# Altium integrated library Capacitos$.IntLib: 174 symbols (part 2 of 2)
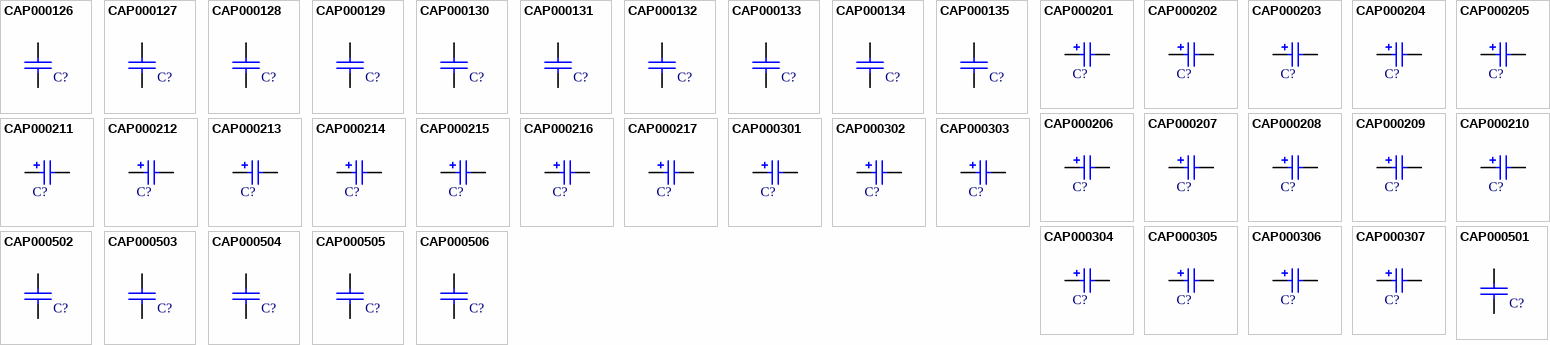
[diagram p5: symbols CAP000126 to CAP000506]

## CAP000207
designator C?, comment 100uF  (value not drawn)
CAP ELEC 100uF 63V TH; Manufactuer: Suntan; Manufacturer-PN: EKM107M1JG1BRR; UoA Stock#: CAP000207; Assembly Method: Through hole; Item Type: Item; Path: ece/ts/Lists/Stock Inventory; Revision: July-2002: Re-released for DXP Platform.; Value: 100uF; Size/Package: 10X13; Voltage/Current: 63V; Datasheet Link: http://share.engineering.auckland.ac.nz/ece/ts/Student%20Documents/CAP-SuntanTS14.pdf; Supplier1: Electus; Supplier1-PN: RE6150; Component Type: NA; Category: Capacitor; Review-date: 41982; Status: Active
footprint ECE-CAPPR5-10X16TH
pins: 1, 2

## CAP000208
designator C?, comment 220uF  (value not drawn)
CAP ELEC 220uF 63V TH; Manufactuer: Suntan; UoA Stock#: CAP000208; Assembly Method: Through hole; Item Type: Item; Path: ece/ts/Lists/Stock Inventory; Revision: July-2002: Re-released for DXP Platform.; Value: 220uF; Size/Package: 13X21; Voltage/Current: 63V; Datasheet Link: http://share.engineering.auckland.ac.nz/ece/ts/Student%20Documents/CAP-SuntanTS14.pdf; Component Type: NA; Category: Capacitor; Status: Active
footprint ECE-CAPPR5-13X21TH
pins: 1, 2

## CAP000209
designator C?, comment 470uF  (value not drawn)
CAP ELEC 470uF 63V TH; Manufactuer: Suntan; Manufacturer-PN: UPW1J471MHD; UoA Stock#: CAP000209; Assembly Method: Through hole; Item Type: Item; Path: ece/ts/Lists/Stock Inventory; Revision: July-2002: Re-released for DXP Platform.; Value: 470uF; Size/Package: 13X21; Voltage/Current: 63V; Datasheet Link: http://share.engineering.auckland.ac.nz/ece/ts/Student%20Documents/CAP-SuntanTS14.pdf; Supplier1: Electus; Supplier1-PN: RE6210; Component Type: NA; Category: Capacitor; Review-date: 41985; Status: Active
footprint ECE-CAPPR5-13X21TH
pins: 1, 2

## CAP000210
designator C?, comment 1000uF  (value not drawn)
CAP ELEC 1000uF 63V TH; Manufactuer: Nichicon; Manufacturer-PN: UVZ1J102MHD; UoA Stock#: CAP000210; Assembly Method: Through hole; Item Type: Item; Path: ece/ts/Lists/Stock Inventory; Revision: July-2002: Re-released for DXP Platform.; Value: 1000uF; Size/Package: 16X32; Voltage/Current: 63V; Datasheet Link: http://share.engineering.auckland.ac.nz/ece/ts/Student%20Documents/CAP-UVZ1E100MDD.pdf; Supplier1: Electus; Supplier1-PN: RE6236; Component Type: NA; Category: Capacitor; Review-date: 41987; Status: Active
footprint ECE-CAPPR7.5-16X32TH
pins: 1, 2

## CAP000211
designator C?, comment 10uF  (value not drawn)
CAP ELEC 10uF 25V TH; Manufactuer: Nichicon; Manufacturer-PN: UVZ1E100MDD; UoA Stock#: CAP000211; Assembly Method: Through hole; Item Type: Item; Path: ece/ts/Lists/Stock Inventory; Revision: July-2002: Re-released for DXP Platform.; Value: 10uF; Size/Package: 5X11; Voltage/Current: 25V; Datasheet Link: http://share.engineering.auckland.ac.nz/ece/ts/Student%20Documents/CAP-UVZ1E100MDD.pdf; Supplier1: Electus; Supplier1-PN: RE6070; Component Type: NA; Category: Capacitor; Review-date: 41977; Status: Active
footprint ECE-CAPPR2-5X11TH
pins: 1, 2

## CAP000212
designator C?, comment 22uF  (value not drawn)
CAP ELEC 22uF 25V TH; Manufactuer: Nichicon; Manufacturer-PN: UVZ1E220MDD; UoA Stock#: CAP000212; Assembly Method: Through hole; Item Type: Item; Path: ece/ts/Lists/Stock Inventory; Revision: July-2002: Re-released for DXP Platform.; Value: 22uF; Size/Package: 5X11; Voltage/Current: 25V; Datasheet Link: http://share.engineering.auckland.ac.nz/ece/ts/Student%20Documents/CAP-UVZ1E100MDD.pdf; Supplier1: Electus; Supplier1-PN: RE6090; Component Type: NA; Category: Capacitor; Review-date: 41979; Status: Active
footprint ECE-CAPPR2-5X11TH
pins: 1, 2

## CAP000213
designator C?, comment 47uF  (value not drawn)
CAP ELEC 47uF 25V TH; Manufactuer: Suntan; UoA Stock#: CAP000213; Assembly Method: Through hole; Item Type: Item; Path: ece/ts/Lists/Stock Inventory; Revision: July-2002: Re-released for DXP Platform.; Value: 47uF; Size/Package: 5X11; Voltage/Current: 25V; Datasheet Link: http://share.engineering.auckland.ac.nz/ece/ts/Student%20Documents/CAP-SuntanTS14.pdf; Supplier1: Electus; Supplier1-PN: RE6110; Component Type: NA; Category: Capacitor; Review-date: 41981; Status: Active
footprint ECE-CAPPR2-5X11TH
pins: 1, 2

## CAP000214
designator C?, comment 100uF  (value not drawn)
CAP ELEC 100uF 25V TH; Manufactuer: Suntan; UoA Stock#: CAP000214; Assembly Method: Through hole; Item Type: Item; Path: ece/ts/Lists/Stock Inventory; Revision: July-2002: Re-released for DXP Platform.; Value: 100uF; Size/Package: 6.3X11; Voltage/Current: 25V; Datasheet Link: http://share.engineering.auckland.ac.nz/ece/ts/Student%20Documents/CAP-SuntanTS14.pdf; Supplier1: Electus; Supplier1-PN: RE6140; Component Type: NA; Category: Capacitor; Review-date: 41983; Status: Active
footprint ECE-CAPPR2.5-6.3X11TH
pins: 1, 2

## CAP000215
designator C?, comment 220uF  (value not drawn)
CAP ELEC 220uF 25V TH; Manufactuer: Suntan; UoA Stock#: CAP000215; Assembly Method: Through hole; Item Type: Item; Path: ece/ts/Lists/Stock Inventory; Revision: July-2002: Re-released for DXP Platform.; Value: 220uF; Size/Package: 8X11; Voltage/Current: 25V; Datasheet Link: http://share.engineering.auckland.ac.nz/ece/ts/Student%20Documents/CAP-SuntanTS14.pdf; Supplier1: Electus; Supplier1-PN: RE6160; Component Type: NA; Category: Capacitor; Review-date: 41984; Status: Active
footprint ECE-CAPPR3.5-8X11TH
pins: 1, 2

## CAP000216
designator C?, comment 470uF  (value not drawn)
CAP ELEC 470uF 25V TH; Manufactuer: Suntan; UoA Stock#: CAP000216; Assembly Method: Through hole; Item Type: Item; Path: ece/ts/Lists/Stock Inventory; Revision: July-2002: Re-released for DXP Platform.; Value: 470uF; Size/Package: 10X16; Voltage/Current: 25V; Datasheet Link: http://share.engineering.auckland.ac.nz/ece/ts/Student%20Documents/CAP-SuntanTS14.pdf; Supplier1: Electus; Supplier1-PN: RE6220; Component Type: NA; Category: Capacitor; Review-date: 41986; Status: Active
footprint ECE-CAPPR5-10X16TH
pins: 1, 2

## CAP000217
designator C?, comment 1000uF  (value not drawn)
CAP ELEC 1000uF 25V TH; Manufactuer: Suntan; UoA Stock#: CAP000217; Assembly Method: Through hole; Item Type: Item; Path: ece/ts/Lists/Stock Inventory; Revision: July-2002: Re-released for DXP Platform.; Value: 1000uF; Size/Package: 13X21; Voltage/Current: 25V; Datasheet Link: http://share.engineering.auckland.ac.nz/ece/ts/Student%20Documents/CAP-UPS1J4R7MDD.pdf; Supplier1: Electus; Supplier1-PN: RE6230; Component Type: NA; Category: Capacitor; Review-date: 41988; Status: Active
footprint ECE-CAPPR5-13X21TH
pins: 1, 2

## CAP000301
designator C?, comment 1uF  (value not drawn)
CAP 1uF 50V ELE SM; Manufactuer: Nichicon; Manufacturer-PN: UWX1H010MCL1GB; UoA Stock#: CAP000301; Assembly Method: Surface Mount; Item Type: Item; Path: ece/ts/Lists/Stock Inventory; Revision: July-2002: Re-released for DXP Platform.; Value: 1uF; Size/Package: 4 X 5.4; Voltage/Current: 50V; Datasheet Link: http://share.engineering.auckland.ac.nz/ece/ts/Student%20Documents/SMT-Ecaps-e-wx.pdf; Supplier1: Digikey; Supplier1-PN: 493-2130-2-ND; Component Type: CAP-4X5.4-1uF-50V; Category: Capacitor; Status: Active
footprint ECE-CAPAE4X5.4SM
pins: 1, 2

## CAP000302
designator C?, comment 4.7uF  (value not drawn)
CAP 4.7uF 35V ELE SM; Manufactuer: Nichicon; Manufacturer-PN: UWX1V4R7MCL1GB; UoA Stock#: CAP000302; Assembly Method: Surface Mount; Item Type: Item; Path: ece/ts/Lists/Stock Inventory; Revision: July-2002: Re-released for DXP Platform.; Value: 4.7uF; Size/Package: 4 X 5.4; Voltage/Current: 35V; Datasheet Link: http://share.engineering.auckland.ac.nz/ece/ts/Student%20Documents/SMT-Ecaps-e-wx.pdf; Supplier1: Digikey; Supplier1-PN: 493-2116-2-ND; Component Type: CAP-4X5.4-4.7uF-35V; Category: Capacitor; Status: Active
footprint ECE-CAPAE4X5.4SM
pins: 1, 2

## CAP000303
designator C?, comment 10uF  (value not drawn)
CAP 10uF 16V ELE SM; Manufactuer: Nichicon; Manufacturer-PN: UWT1C100MCL1GB; UoA Stock#: CAP000303; Assembly Method: Surface Mount; Item Type: Item; Path: ece/ts/Lists/Stock Inventory; Revision: July-2002: Re-released for DXP Platform.; Value: 10uF; Size/Package: 4 X 5.4; Voltage/Current: 16V; Datasheet Link: http://share.engineering.auckland.ac.nz/ece/ts/Student%20Documents/SMT-Ecaps-e-wx.pdf; Supplier1: Digikey; Supplier1-PN: 493-2173-2-ND; Component Type: CAP-4X5.4-10uF-16V; Category: Capacitor; Status: Active
footprint ECE-CAPAE4X5.4SM
pins: 1, 2

## CAP000304
designator C?, comment 22uF  (value not drawn)
CAP 22uF 35V ELE SM; Manufactuer: Nichicon; Manufacturer-PN: UWX1H220MCL1GB; UoA Stock#: CAP000304; Assembly Method: Surface Mount; Item Type: Item; Path: ece/ts/Lists/Stock Inventory; Revision: July-2002: Re-released for DXP Platform.; Value: 22uF; Size/Package: 6.3 X 5.4; Voltage/Current: 35V; Datasheet Link: http://share.engineering.auckland.ac.nz/ece/ts/Student%20Documents/SMT-Ecaps-e-wx.pdf; Supplier1: Digikey; Supplier1-PN: 493-2136-2-ND; Component Type: CAP-6.3X5.4-22uF-35V; Category: Capacitor; Status: Active
footprint ECE-CAPAE6.3X5.4SM
pins: 1, 2

## CAP000305
designator C?, comment 47uF  (value not drawn)
CAP 47uF 16V ELE SM; Manufactuer: Nichicon; Manufacturer-PN: UWT1C470MCL1GB; UoA Stock#: CAP000305; Assembly Method: Surface Mount; Item Type: Item; Path: ece/ts/Lists/Stock Inventory; Revision: July-2002: Re-released for DXP Platform.; Value: 47uF; Size/Package: 6.3 X 5.4; Voltage/Current: 16V; Datasheet Link: http://share.engineering.auckland.ac.nz/ece/ts/Student%20Documents/SMT-Ecaps-e-wt.pdf; Supplier1: Digikey; Supplier1-PN: 493-2176-2-ND; Component Type: CAP-6.3X5.4-47uF-16V; Category: Capacitor; Status: Active
footprint ECE-CAPAE6.3X5.4SM
pins: 1, 2

## CAP000306
designator C?, comment 100uF  (value not drawn)
CAP 100uF 16V ELE SM; Manufactuer: Nichicon; Manufacturer-PN: UWX1C101MCL1GB; UoA Stock#: CAP000306; Assembly Method: Surface Mount; Item Type: Item; Path: ece/ts/Lists/Stock Inventory; Revision: July-2002: Re-released for DXP Platform.; Value: 100uF; Size/Package: 6.3 X 5.4; Voltage/Current: 16V; Datasheet Link: http://share.engineering.auckland.ac.nz/ece/ts/Student%20Documents/SMT-Ecaps-e-wx.pdf; Supplier1: Digikey; Supplier1-PN: 493-2105-2-ND; Component Type: CAP-6.3X5.4-100uF-16V; Category: Capacitor; Status: Active
footprint ECE-CAPAE6.3X5.4SM
pins: 1, 2

## CAP000307
designator C?, comment 220uF  (value not drawn)
CAP 220uF 25V ELE SM; Manufactuer: Nichicon; Manufacturer-PN: UWX1C101MCL1GB; UoA Stock#: CAP000307; Assembly Method: Surface Mount; Item Type: Item; Path: ece/ts/Lists/Stock Inventory; Revision: July-2002: Re-released for DXP Platform.; Value: 220uF; Size/Package: 10 X 10.2; Voltage/Current: 25V; Datasheet Link: http://share.engineering.auckland.ac.nz/ece/ts/Student%20Documents/SMT-Ecaps-e-wx.pdf; Supplier1: Digikey; Supplier1-PN: 493-2105-2-ND; Component Type: CAP-10X10.2-220uF-25V; Category: Capacitor; Status: Active
footprint ECE-CAPAE10X10.2SM
pins: 1, 2

## CAP000501
designator C?, comment 10pF  (value not drawn)
CAP CER 10pF 50V NPO SM0805; Manufactuer: Samsung; Manufacturer-PN: CL21C100JBANNNC; UoA Stock#: CAP000501; Assembly Method: Surface Mount; Item Type: Item; Path: ece/ts/Lists/Stock Inventory; Value: 10pF; Size/Package: 0805 (2012 Metric); Voltage/Current: 50V; Supplier1: Digikey; Supplier1-PN: 1276-1109-2-ND; Component Type: CAP-0805-10pF; Category: Capacitor; Status: Active
footprint ECE-CAPC2012-0805SM
pins: 1, 2

## CAP000502
designator C?, comment 15pF  (value not drawn)
CAP CER 15pF 50V NPO SM0805; Manufactuer: Samsung; Manufacturer-PN: CL21C150JBANNNC; UoA Stock#: CAP000502; Assembly Method: Surface Mount; Item Type: Item; Path: ece/ts/Lists/Stock Inventory; Value: 15pF; Size/Package: 0805 (2012 Metric); Voltage/Current: 50V; Supplier1: Digikey; Supplier1-PN: 1276-1163-2-ND; Component Type: CAP-0805-15pF; Category: Capacitor; Status: Active
footprint ECE-CAPC2012-0805SM
pins: 1, 2

## CAP000503
designator C?, comment 22pF  (value not drawn)
CAP CER 22pF 50V NPO SM0805; Manufactuer: Samsung; Manufacturer-PN: CL21C220JBANNNC; UoA Stock#: CAP000503; Assembly Method: Surface Mount; Item Type: Item; Path: ece/ts/Lists/Stock Inventory; Value: 22pF; Size/Package: 0805 (2012 Metric); Voltage/Current: 50V; Supplier1: Digikey; Supplier1-PN: 1276-1047-2-ND; Component Type: CAP-0805-22pF; Category: Capacitor; Status: Active
footprint ECE-CAPC2012-0805SM
pins: 1, 2

## CAP000504
designator C?, comment 47pF  (value not drawn)
CAP CER 47pF 50V NPO SM0805; Manufactuer: Samsung; Manufacturer-PN: CL21C470JBANNNC; UoA Stock#: CAP000504; Assembly Method: Surface Mount; Item Type: Item; Path: ece/ts/Lists/Stock Inventory; Value: 47pF; Size/Package: 0805 (2012 Metric); Voltage/Current: 50V; Supplier1: Digikey; Supplier1-PN: 1276-1156-2-ND; Component Type: CAP-0805-47pF; Category: Capacitor; Status: Active
footprint ECE-CAPC2012-0805SM
pins: 1, 2

## CAP000505
designator C?, comment 68pF  (value not drawn)
CAP CER 68pF 50V NPO SM0805; Manufactuer: Samsung; Manufacturer-PN: CL21C680JBANNNC; UoA Stock#: CAP000505; Assembly Method: Surface Mount; Item Type: Item; Path: ece/ts/Lists/Stock Inventory; Value: 68pF; Size/Package: 0805 (2012 Metric); Voltage/Current: 50V; Supplier1: Digikey; Supplier1-PN: 1276-1136-2-ND; Component Type: CAP-0805-68pF; Category: Capacitor; Status: Active
footprint ECE-CAPC2012-0805SM
pins: 1, 2

## CAP000506
designator C?, comment 100pF  (value not drawn)
CAP CER 100pF 50V NPO SM0805; Manufactuer: Samsung; Manufacturer-PN: CL21C101JBANNNC; UoA Stock#: CAP000506; Assembly Method: Surface Mount; Item Type: Item; Path: ece/ts/Lists/Stock Inventory; Value: 100pF; Size/Package: 0805 (2012 Metric); Voltage/Current: 50V; Supplier1: Digikey; Supplier1-PN: 1276-1014-2-ND; Component Type: CAP-0805-100pF; Category: Capacitor; Status: Active
footprint ECE-CAPC2012-0805SM
pins: 1, 2

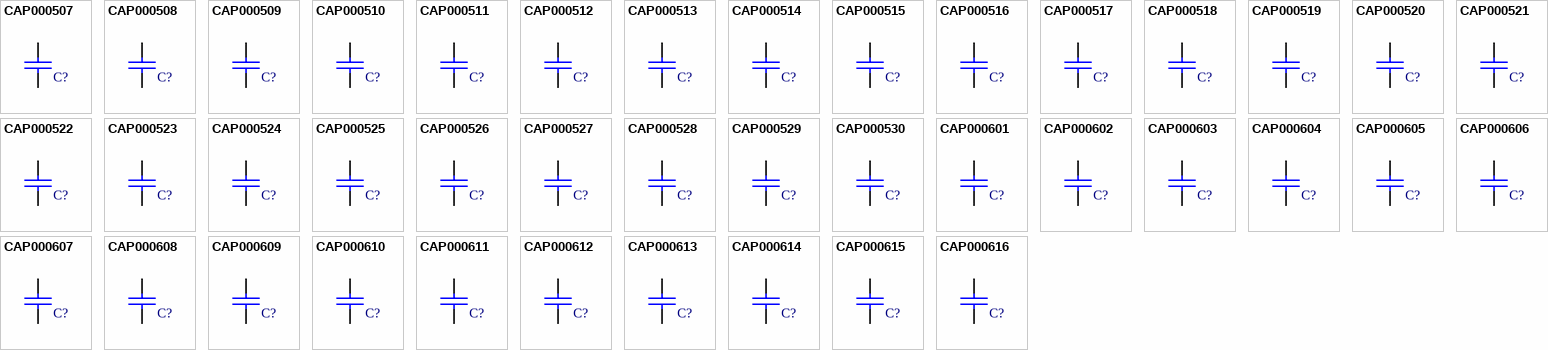
[diagram p3: symbols CAP000507 to CAP000616]

## CAP000507
designator C?, comment 150pF  (value not drawn)
CAP CER 150pF 50V NPO SM0805; Manufactuer: Kemet; Manufacturer-PN: C0805C151J5GACTU; UoA Stock#: CAP000507; Assembly Method: Surface Mount; Item Type: Item; Path: ece/ts/Lists/Stock Inventory; Value: 150pF; Size/Package: 0805 (2012 Metric); Voltage/Current: 50V; Supplier1: DIgikey; Supplier1-PN: 399-1125-2-ND; Component Type: CAP-0805-150pF; Category: Capacitor; Status: Active
footprint ECE-CAPC2012-0805SM
pins: 1, 2

## CAP000508
designator C?, comment 220pF  (value not drawn)
CAP CER 220pF 50V NPO SM0805; Manufactuer: Samsung; Manufacturer-PN: CL21C221JBANNNC; UoA Stock#: CAP000508; Assembly Method: Surface Mount; Item Type: Item; Path: ece/ts/Lists/Stock Inventory; Value: 220pF; Size/Package: 0805 (2012 Metric); Voltage/Current: 50V; Supplier1: Digikey; Supplier1-PN: 1276-1164-2-ND; Component Type: CAP-0805-220pF; Category: Capacitor; Status: Active
footprint ECE-CAPC2012-0805SM
pins: 1, 2

## CAP000509
designator C?, comment 330pF  (value not drawn)
CAP CER 330pF 50V NPO SM0805; Manufactuer: Samsung; Manufacturer-PN: CL21C331JBANNNC; UoA Stock#: CAP000509; Assembly Method: Surface Mount; Item Type: Item; Path: ece/ts/Lists/Stock Inventory; Value: 330pF; Size/Package: 0805 (2012 Metric); Voltage/Current: 50V; Supplier1: Digikey; Supplier1-PN: 1276-1189-2-ND; Component Type: CAP-0805-330pF; Category: Capacitor; Status: Active
footprint ECE-CAPC2012-0805SM
pins: 1, 2

## CAP000510
designator C?, comment 470pF  (value not drawn)
CAP CER 470pF 50V X7R SM0805; Manufactuer: Samsung; Manufacturer-PN: CL21B471KBANNNC; UoA Stock#: CAP000510; Assembly Method: Surface Mount; Item Type: Item; Path: ece/ts/Lists/Stock Inventory; Value: 470pF; Size/Package: 0805 (2012 Metric); Voltage/Current: 50V; Supplier1: Digikey; Supplier1-PN: 1276-1300-2-ND; Component Type: CAP-0805-470pF; Category: Capacitor; Status: Active
footprint ECE-CAPC2012-0805SM
pins: 1, 2

## CAP000511
designator C?, comment 680pF  (value not drawn)
CAP CER 680pF 50V X7R SM0805; Manufactuer: Samsung; Manufacturer-PN: CL21B681KBANFNC; UoA Stock#: CAP000511; Assembly Method: Surface Mount; Item Type: Item; Path: ece/ts/Lists/Stock Inventory; Value: 680pF; Size/Package: 0805 (2012 Metric); Voltage/Current: 50V; Supplier1: Digikey; Supplier1-PN: 1276-2537-2-ND; Component Type: CAP-0805-680pF; Category: Capacitor; Status: Active
footprint ECE-CAPC2012-0805SM
pins: 1, 2

## CAP000512
designator C?, comment 1nF  (value not drawn)
CAP CER 1nF 50V X7R SM0805; Manufactuer: Samsung; Manufacturer-PN: CL21B102KBANNNC; UoA Stock#: CAP000512; Assembly Method: Surface Mount; Alternative-PN: C0805C102K5RACTU; Item Type: Item; Path: ece/ts/Lists/Stock Inventory; Value: 1nF; Size/Package: 0805 (2012 Metric); Voltage/Current: 50V; Supplier1: Digikey; Supplier1-PN: 1276-1020-2-ND; Component Type: CAP-0805-1nF; Category: Capacitor; Status: Active
footprint ECE-CAPC2012-0805SM
pins: 1, 2

## CAP000513
designator C?, comment 1.5nF  (value not drawn)
CAP CER 1.5nF 50V X7R SM0805; Manufactuer: Samsung; Manufacturer-PN: CL21B152KBANNNC; UoA Stock#: CAP000513; Assembly Method: Surface Mount; Item Type: Item; Path: ece/ts/Lists/Stock Inventory; Value: 1.5nF; Size/Package: 0805 (2012 Metric); Voltage/Current: 50V; Supplier1: Digikey; Supplier1-PN: 1276-1794-2-ND; Component Type: CAP-0805-1.5nF; Category: Capacitor; Status: Active
footprint ECE-CAPC2012-0805SM
pins: 1, 2

## CAP000514
designator C?, comment 2.2nF  (value not drawn)
CAP CER 2.2nF 50V X7R SM0805; Manufactuer: Samsung; Manufacturer-PN: CL21B222KBANNNC; UoA Stock#: CAP000514; Assembly Method: Surface Mount; Item Type: Item; Path: ece/ts/Lists/Stock Inventory; Value: 2.2nF; Size/Package: 0805 (2012 Metric); Voltage/Current: 50V; Supplier1: Digikey; Supplier1-PN: 1276-1171-2-ND; Component Type: CAP-0805-2.2nF; Category: Capacitor; Status: Active
footprint ECE-CAPC2012-0805SM
pins: 1, 2

## CAP000515
designator C?, comment 3.3nF  (value not drawn)
CAP CER 3.3nF 50V X7R SM0805; Manufactuer: Samsung; Manufacturer-PN: CL21B332KBANNNC; UoA Stock#: CAP000515; Assembly Method: Surface Mount; Item Type: Item; Path: ece/ts/Lists/Stock Inventory; Value: 3.3nF; Size/Package: 0805 (2012 Metric); Voltage/Current: 50V; Supplier1: Digikey; Supplier1-PN: 1276-1260-2-ND; Component Type: CAP-0805-3.3nF; Category: Capacitor; Status: Active
footprint ECE-CAPC2012-0805SM
pins: 1, 2

## CAP000516
designator C?, comment 4.7nF  (value not drawn)
CAP CER 4.7nF 50V X7R SM0805; Manufactuer: Samsung; Manufacturer-PN: CL21B472KBANNNC; UoA Stock#: CAP000516; Assembly Method: Surface Mount; Item Type: Item; Path: ece/ts/Lists/Stock Inventory; Value: 4.7nF; Size/Package: 0805 (2012 Metric); Voltage/Current: 50V; Supplier1: Digikey; Supplier1-PN: 1276-1155-2-ND; Component Type: CAP-0805-4.7nF; Category: Capacitor; Status: Active
footprint ECE-CAPC2012-0805SM
pins: 1, 2

## CAP000517
designator C?, comment 6.8nF  (value not drawn)
CAP CER 6.8nF 50V X7R SM0805; Manufactuer: Samsung; Manufacturer-PN: CL21B682KBANNNC; UoA Stock#: CAP000517; Assembly Method: Surface Mount; Item Type: Item; Path: ece/ts/Lists/Stock Inventory; Value: 6.8nF; Size/Package: 0805 (2012 Metric); Voltage/Current: 50V; Supplier1: Digikey; Supplier1-PN: 1276-1799-2-ND; Component Type: CAP-0805-6.8nF; Category: Capacitor; Status: Active
footprint ECE-CAPC2012-0805SM
pins: 1, 2

## CAP000518
designator C?, comment 10nF  (value not drawn)
CAP CER 10nF 50V X7R SM0805; Manufactuer: Samsung; Manufacturer-PN: CL21B103KBANNNC; UoA Stock#: CAP000518; Assembly Method: Surface Mount; Alternative-PN: C0805C682K5RACTU; Item Type: Item; Path: ece/ts/Lists/Stock Inventory; Value: 10nF; Size/Package: 0805 (2012 Metric); Voltage/Current: 50V; Supplier1: Digikey; Supplier1-PN: 1276-1015-2-ND; Component Type: CAP-0805-10nF; Category: Capacitor; Status: Active
footprint ECE-CAPC2012-0805SM
pins: 1, 2

## CAP000519
designator C?, comment 15nF  (value not drawn)
CAP CER 15nF 50V X7R SM0805; Manufactuer: Samsung; Manufacturer-PN: CL21B153KBANFNC; UoA Stock#: CAP000519; Assembly Method: Surface Mount; Item Type: Item; Path: ece/ts/Lists/Stock Inventory; Value: 15nF; Size/Package: 0805 (2012 Metric); Voltage/Current: 50V; Supplier1: Digikey; Supplier1-PN: 1276-2461-2-ND; Component Type: CAP-0805-15nF; Category: Capacitor; Status: Active
footprint ECE-CAPC2012-0805SM
pins: 1, 2

## CAP000520
designator C?, comment 22nF  (value not drawn)
CAP CER 22nF 50V X7R SM0805; Manufactuer: Samsung; Manufacturer-PN: CL21B223KBANNNC; UoA Stock#: CAP000520; Assembly Method: Surface Mount; Item Type: Item; Path: ece/ts/Lists/Stock Inventory; Value: 22nF; Size/Package: 0805 (2012 Metric); Voltage/Current: 50V; Supplier1: Digikey; Supplier1-PN: 1276-1081-2-ND; Component Type: CAP-0805-22nF; Category: Capacitor; Status: Active
footprint ECE-CAPC2012-0805SM
pins: 1, 2

## CAP000521
designator C?, comment 33nF  (value not drawn)
CAP CER 33nF 50V X7R SM0805; Manufactuer: Samsung; Manufacturer-PN: CL21B333KBANNNC; UoA Stock#: CAP000521; Assembly Method: Surface Mount; Item Type: Item; Path: ece/ts/Lists/Stock Inventory; Value: 33nF; Size/Package: 0805 (2012 Metric); Voltage/Current: 50V; Supplier1: Digikey; Supplier1-PN: 1276-1796-2-ND; Component Type: CAP-0805-33nF; Category: Capacitor; Status: Active
footprint ECE-CAPC2012-0805SM
pins: 1, 2

## CAP000522
designator C?, comment 47nF  (value not drawn)
CAP CER 47nF 50V X7R SM0805; Manufactuer: Samsung; Manufacturer-PN: CL21B473KBCNNNC; UoA Stock#: CAP000522; Assembly Method: Surface Mount; Item Type: Item; Path: ece/ts/Lists/Stock Inventory; Value: 47nF; Size/Package: 0805 (2012 Metric); Voltage/Current: 50V; Supplier1: Digikey; Supplier1-PN: 1276-1250-2-ND; Component Type: CAP-0805-47nF; Category: Capacitor; Status: Active
footprint ECE-CAPC2012-0805SM
pins: 1, 2

## CAP000523
designator C?, comment 68nF  (value not drawn)
CAP CER 68nF 50V X7R SM0805; Manufactuer: Samsung; Manufacturer-PN: CL21B683KBCNNNC; UoA Stock#: CAP000523; Assembly Method: Surface Mount; Item Type: Item; Path: ece/ts/Lists/Stock Inventory; Value: 68nF; Size/Package: 0805 (2012 Metric); Voltage/Current: 50V; Supplier1: Digikey; Supplier1-PN: 1276-1251-2-ND; Component Type: CAP-0805-68nF; Category: Capacitor; Status: Active
footprint ECE-CAPC2012-0805SM
pins: 1, 2

## CAP000524
designator C?, comment 100nF  (value not drawn)
CAP CER 100nF 50V X7R SM0805; Manufactuer: Samsung; Manufacturer-PN: CL21B104KBCNNNC; UoA Stock#: CAP000524; Assembly Method: Surface Mount; Item Type: Item; Path: ece/ts/Lists/Stock Inventory; Value: 100nF; Size/Package: 0805 (2012 Metric); Voltage/Current: 50V; Supplier1: Digikey; Supplier1-PN: 276-1003-2-ND; Component Type: CAP-0805-100nF; Category: Capacitor; Status: Active
footprint ECE-CAPC2012-0805SM
pins: 1, 2

## CAP000525
designator C?, comment 150nF  (value not drawn)
CAP CER 150nF 50V X7R SM0805; Manufactuer: Samsung; Manufacturer-PN: CL21B154KBFNNNE; UoA Stock#: CAP000525; Assembly Method: Surface Mount; Item Type: Item; Path: ece/ts/Lists/Stock Inventory; Value: 150nF; Size/Package: 0805 (2012 Metric); Voltage/Current: 50V; Supplier1: Digikey; Supplier1-PN: 1276-1299-2-ND; Component Type: CAP-0805-150nF; Category: Capacitor; Status: Active
footprint ECE-CAPC2012-0805SM
pins: 1, 2

## CAP000526
designator C?, comment 220nF  (value not drawn)
CAP CER 220nF 50V X7R SM0805; Manufactuer: Samsung; Manufacturer-PN: CL21B224KBFSFNE; UoA Stock#: CAP000526; Assembly Method: Surface Mount; Item Type: Item; Path: ece/ts/Lists/Stock Inventory; Value: 220nF; Size/Package: 0805 (2012 Metric); Voltage/Current: 50V; Supplier1: Digikey; Supplier1-PN: 1276-2948-2-ND; Component Type: CAP-0805-220nF; Category: Capacitor; Status: Active
footprint ECE-CAPC2012-0805SM
pins: 1, 2

## CAP000527
designator C?, comment 330nF  (value not drawn)
CAP CER 330nF 50V X7R SM0805; Manufactuer: Samsung; Manufacturer-PN: CL21B334KBFNNNE; UoA Stock#: CAP000527; Assembly Method: Surface Mount; Item Type: Item; Path: ece/ts/Lists/Stock Inventory; Value: 330nF; Size/Package: 0805 (2012 Metric); Voltage/Current: 50V; Supplier1: Digikey; Supplier1-PN: 1276-1123-2-ND; Component Type: CAP-0805-330nF; Category: Capacitor; Status: Active
footprint ECE-CAPC2012-0805SM
pins: 1, 2

## CAP000528
designator C?, comment 470nF  (value not drawn)
CAP CER 470nF 50V X7R SM0805; Manufactuer: Samsung; Manufacturer-PN: CL21B474KBFNNNE; UoA Stock#: CAP000528; Assembly Method: Surface Mount; Item Type: Item; Path: ece/ts/Lists/Stock Inventory; Value: 470nF; Size/Package: 0805 (2012 Metric); Voltage/Current: 50V; Supplier1: Digikey; Supplier1-PN: 1276-1039-2-ND; Component Type: CAP-0805-470nF; Category: Capacitor; Status: Active
footprint ECE-CAPC2012-0805SM
pins: 1, 2

## CAP000529
designator C?, comment 680nF  (value not drawn)
CAP CER 680nF 50V X7R SM0805; Manufactuer: TDK; Manufacturer-PN: C2012X7R1H684K125AB; UoA Stock#: CAP000529; Assembly Method: Surface Mount; Item Type: Item; Path: ece/ts/Lists/Stock Inventory; Value: 680nF; Size/Package: 0805 (2012 Metric); Voltage/Current: 50V; Supplier1: Digikey; Supplier1-PN: 445-7545-2-ND; Component Type: CAP-0805-680nF; Category: Capacitor; Status: Active
footprint ECE-CAPC2012-0805SM
pins: 1, 2

## CAP000530
designator C?, comment 1uF  (value not drawn)
CAP CER 1uF 50V X7R SM0805; Manufactuer: Samsung; Manufacturer-PN: CL21B105KBFNNNE; UoA Stock#: CAP000530; Assembly Method: Surface Mount; Item Type: Item; Path: ece/ts/Lists/Stock Inventory; Value: 1uF; Size/Package: 0805 (2012 Metric); Voltage/Current: 50V; Supplier1: Digikey; Supplier1-PN: 1276-1029-2-ND; Component Type: CAP-0805-1uF; Category: Capacitor; Status: Active
footprint ECE-CAPC2012-0805SM
pins: 1, 2

## CAP000601
designator C?, comment 10pF  (value not drawn)
CAP CER 10pF 50V NPO SM0603; Manufactuer: Samsung; Manufacturer-PN: CL10C100JB8NCNC; UoA Stock#: CAP000601; Assembly Method: Surface Mount; Item Type: Item; Path: ece/ts/Lists/Stock Inventory; Value: 10pF; Size/Package: 0603 (1608 Metric); Voltage/Current: 50V; Supplier1: Digikey; Supplier1-PN: 1276-2154-2-ND; Component Type: CAP-0603-10pF; Category: Capacitor; Status: Active
footprint ECE-CAPC1608-0603SM
pins: 1, 2

## CAP000602
designator C?, comment 15pF  (value not drawn)
CAP CER 15pF 50V NPO SM0603; Manufactuer: Samsung; Manufacturer-PN: CL10C150KB8NNNC; UoA Stock#: CAP000602; Assembly Method: Surface Mount; Item Type: Item; Path: ece/ts/Lists/Stock Inventory; Value: 15pF; Size/Package: 0603 (1608 Metric); Voltage/Current: 50V; Supplier1: Digikey; Supplier1-PN: 1276-2193-2-ND; Component Type: CAP-0603-15pF; Category: Capacitor; Status: Active
footprint ECE-CAPC1608-0603SM
pins: 1, 2

## CAP000603
designator C?, comment 33pF  (value not drawn)
CAP CER 33pF 50V NPO SM0603; Manufactuer: Samsung; Manufacturer-PN: CL10C330KB8NNNC; UoA Stock#: CAP000603; Assembly Method: Surface Mount; Item Type: Item; Path: ece/ts/Lists/Stock Inventory; Value: 33pF; Size/Package: 0603 (1608 Metric); Voltage/Current: 50V; Supplier1: Digikey; Supplier1-PN: 1276-2268-2-ND; Component Type: CAP-0603-33pF; Category: Capacitor; Status: Active
footprint ECE-CAPC1608-0603SM
pins: 1, 2

## CAP000604
designator C?, comment 47pF  (value not drawn)
CAP CER 47pF 50V NPO SM0603; Manufactuer: AVX; Manufacturer-PN: 06035A470KAT2A; UoA Stock#: CAP000604; Assembly Method: Surface Mount; Item Type: Item; Path: ece/ts/Lists/Stock Inventory; Value: 47pF; Size/Package: 0603 (1608 Metric); Voltage/Current: 50V; Supplier1: Digikey; Supplier1-PN: 478-6203-2-ND; Component Type: CAP-0603-47pF; Category: Capacitor; Status: Active
footprint ECE-CAPC1608-0603SM
pins: 1, 2

## CAP000605
designator C?, comment 68pF  (value not drawn)
CAP CER 68pF 50V NPO SM0603; Manufactuer: Kemet; Manufacturer-PN: C0603C680K5GACTU; UoA Stock#: CAP000605; Assembly Method: Surface Mount; Item Type: Item; Path: ece/ts/Lists/Stock Inventory; Value: 68pF; Size/Package: 0603 (1608 Metric); Voltage/Current: 50V; Supplier1: Digikey; Supplier1-PN: 399-7947-6-ND; Component Type: CAP-0603-68pF; Category: Capacitor; Status: Active
footprint ECE-CAPC1608-0603SM
pins: 1, 2

## CAP000606
designator C?, comment 100pF  (value not drawn)
CAP CER 100pF 50V NPO SM0603; Manufactuer: Samsung; Manufacturer-PN: CL10C101KB8NNNC; UoA Stock#: CAP000606; Assembly Method: Surface Mount; Item Type: Item; Path: ece/ts/Lists/Stock Inventory; Value: 100pF; Size/Package: 0603 (1608 Metric); Voltage/Current: 50V; Supplier1: Digikey; Supplier1-PN: 1276-2167-2-ND; Component Type: CAP-0603-100pF; Category: Capacitor; Status: Active
footprint ECE-CAPC1608-0603SM
pins: 1, 2

## CAP000607
designator C?, comment 150pF  (value not drawn)
CAP CER 150pF 50V NPO SM0603; Manufactuer: Samsung; Manufacturer-PN: CL10B151KB8NNNC; UoA Stock#: CAP000607; Assembly Method: Surface Mount; Item Type: Item; Path: ece/ts/Lists/Stock Inventory; Value: 150pF; Size/Package: 0603 (1608 Metric); Voltage/Current: 50V; Supplier1: Digikey; Supplier1-PN: 1276-1956-6-ND; Component Type: CAP-0603-150pF; Category: Capacitor; Status: Active
footprint ECE-CAPC1608-0603SM
pins: 1, 2

## CAP000608
designator C?, comment 220pF  (value not drawn)
CAP CER 220pF 50V NPO SM0603; Manufactuer: Samsung; Manufacturer-PN: CL10B221KB8NNNC; UoA Stock#: CAP000608; Assembly Method: Surface Mount; Item Type: Item; Path: ece/ts/Lists/Stock Inventory; Value: 220pF; Size/Package: 0603 (1608 Metric); Voltage/Current: 50V; Supplier1: Digikey; Supplier1-PN: 1276-1145-2-ND; Component Type: CAP-0603-220pF; Category: Capacitor; Status: Active
footprint ECE-CAPC1608-0603SM
pins: 1, 2

## CAP000609
designator C?, comment 330pF  (value not drawn)
CAP CER 330pF 50V X7R SM0603; Manufactuer: Yageo; Manufacturer-PN: CC0603KRX7R9BB331; UoA Stock#: CAP000609; Assembly Method: Surface Mount; Item Type: Item; Path: ece/ts/Lists/Stock Inventory; Value: 330pF; Size/Package: 0603 (1608 Metric); Voltage/Current: 50V; Supplier1: Digikey; Supplier1-PN: 311-1186-2-ND; Component Type: CAP-0603-330pF; Category: Capacitor; Status: Active
footprint ECE-CAPC1608-0603SM
pins: 1, 2

## CAP000610
designator C?, comment 470pF  (value not drawn)
CAP CER 470pF 50V X7R SM0603; Manufactuer: Samsung; Manufacturer-PN: CL10B471KB8NNNC; UoA Stock#: CAP000610; Assembly Method: Surface Mount; Item Type: Item; Path: ece/ts/Lists/Stock Inventory; Value: 470pF; Size/Package: 0603 (1608 Metric); Voltage/Current: 50V; Supplier1: Digikey; Supplier1-PN: 1276-1094-2-ND; Component Type: CAP-0603-470pF; Category: Capacitor; Status: Active
footprint ECE-CAPC1608-0603SM
pins: 1, 2

## CAP000611
designator C?, comment 680pF  (value not drawn)
CAP CER 680pF 50V X7R SM0603; Manufactuer: Samsung; Manufacturer-PN: CL10B681KB8NNNC; UoA Stock#: CAP000611; Assembly Method: Surface Mount; Item Type: Item; Path: ece/ts/Lists/Stock Inventory; Value: 680pF; Size/Package: 0603 (1608 Metric); Voltage/Current: 50V; Supplier1: Digikey; Supplier1-PN: 1276-1080-2-ND; Component Type: CAP-0603-680pF; Category: Capacitor; Status: Active
footprint ECE-CAPC1608-0603SM
pins: 1, 2

## CAP000612
designator C?, comment 1000pF  (value not drawn)
CAP CER 1000pF 50V X7R SM0603; Manufactuer: Kemet; Manufacturer-PN: C0603C102K5RACTU; UoA Stock#: CAP000612; Assembly Method: Surface Mount; Item Type: Item; Path: ece/ts/Lists/Stock Inventory; Value: 1000pF; Size/Package: 0603 (1608 Metric); Voltage/Current: 50V; Supplier1: Digikey; Supplier1-PN: 399-1082-2-ND; Component Type: CAP-0603-1nF; Category: Capacitor; Status: Active
footprint ECE-CAPC1608-0603SM
pins: 1, 2

## CAP000613
designator C?, comment 1500pF  (value not drawn)
CAP CER 1500pF 50V X7R SM0603; Manufactuer: Samsung; Manufacturer-PN: CL10B152KB8SFNC; UoA Stock#: CAP000613; Assembly Method: Surface Mount; Item Type: Item; Path: ece/ts/Lists/Stock Inventory; Value: 1500pF; Size/Package: 0603 (1608 Metric); Voltage/Current: 50V; Supplier1: Digikey; Supplier1-PN: 1276-1960-2-ND; Component Type: CAP-0603-1.5nF; Category: Capacitor; Status: Active
footprint ECE-CAPC1608-0603SM
pins: 1, 2

## CAP000614
designator C?, comment 2200pF  (value not drawn)
CAP CER 2200pF 50V X7R SM0603; Manufactuer: Samsung; Manufacturer-PN: CL10B222KB8SFNC; UoA Stock#: CAP000614; Assembly Method: Surface Mount; Item Type: Item; Path: ece/ts/Lists/Stock Inventory; Value: 2200pF; Size/Package: 0603 (1608 Metric); Voltage/Current: 50V; Supplier1: Digikey; Supplier1-PN: 1276-1992-2-ND; Component Type: CAP-0603-2.2nF; Category: Capacitor; Status: Active
footprint ECE-CAPC1608-0603SM
pins: 1, 2

## CAP000615
designator C?, comment 3300pF  (value not drawn)
CAP CER 3300pF 50V X7R SM0603; Manufactuer: Samsung; Manufacturer-PN: CL10B332KB8SFNC; UoA Stock#: CAP000615; Assembly Method: Surface Mount; Item Type: Item; Path: ece/ts/Lists/Stock Inventory; Value: 3300pF; Size/Package: 0603 (1608 Metric); Voltage/Current: 50V; Supplier1: Digikey; Supplier1-PN: 1276-2034-2-ND; Component Type: CAP-0603-3.3nF; Category: Capacitor; Status: Active
footprint ECE-CAPC1608-0603SM
pins: 1, 2

## CAP000616
designator C?, comment 4700pF  (value not drawn)
CAP CER 4700pF 50V X7R SM0603; Manufactuer: Samsung; Manufacturer-PN: CL10B332KB8SFNC; UoA Stock#: CAP000616; Assembly Method: Surface Mount; Item Type: Item; Path: ece/ts/Lists/Stock Inventory; Value: 4700pF; Size/Package: 0603 (1608 Metric); Voltage/Current: 50V; Supplier1: Digikey; Supplier1-PN: 1276-2034-2-ND; Component Type: CAP-0603-4.7nF; Category: Capacitor; Status: Active
footprint ECE-CAPC1608-0603SM
pins: 1, 2

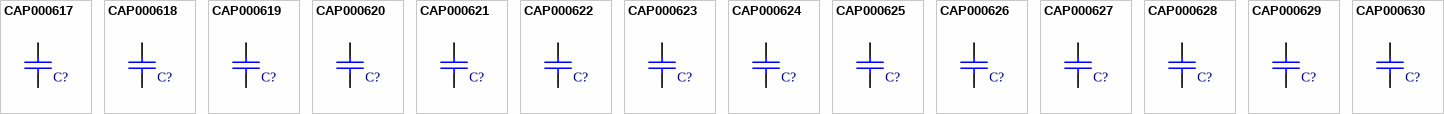
[diagram p4: symbols CAP000617 to CAP000630]

## CAP000617
designator C?, comment 6800pF  (value not drawn)
CAP CER 6800pF 50V X7R SM0603; Manufactuer: TDK; Manufacturer-PN: CGA3E2X7R1H682K080AA; UoA Stock#: CAP000617; Assembly Method: Surface Mount; Item Type: Item; Path: ece/ts/Lists/Stock Inventory; Value: 6800pF; Size/Package: 0603 (1608 Metric); Voltage/Current: 50V; Supplier1: Digikey; Supplier1-PN: 445-6922-2-ND; Component Type: CAP-0603-6.8nF; Category: Capacitor; Status: Active
footprint ECE-CAPC1608-0603SM
pins: 1, 2

## CAP000618
designator C?, comment 10nF  (value not drawn)
CAP CER 10nF 50V X7R SM0603; Manufactuer: Kemet; Manufacturer-PN: C0603C103K5RACTU; UoA Stock#: CAP000618; Assembly Method: Surface Mount; Item Type: Item; Path: ece/ts/Lists/Stock Inventory; Value: 10nF; Size/Package: 0603 (1608 Metric); Voltage/Current: 50V; Supplier1: Digikey; Supplier1-PN: 399-1091-2-ND; Component Type: CAP-0603-10nF; Category: Capacitor; Status: Active
footprint ECE-CAPC1608-0603SM
pins: 1, 2

## CAP000619
designator C?, comment 15nF  (value not drawn)
CAP CER 15nF 50V X7R SM0603; Manufactuer: Samsung; Manufacturer-PN: CL10B153KB8NNNC; UoA Stock#: CAP000619; Assembly Method: Surface Mount; Item Type: Item; Path: ece/ts/Lists/Stock Inventory; Value: 15nF; Size/Package: 0603 (1608 Metric); Voltage/Current: 50V; Supplier1: Digikey; Supplier1-PN: 1276-1277-2-ND; Component Type: CAP-0603-15nF; Category: Capacitor; Status: Active
footprint ECE-CAPC1608-0603SM
pins: 1, 2

## CAP000620
designator C?, comment 22nF  (value not drawn)
CAP CER 22nF 50V X7R SM0603; Manufactuer: Samsung; Manufacturer-PN: CL10B223KA8NNWC; UoA Stock#: CAP000620; Assembly Method: Surface Mount; Item Type: Item; Path: ece/ts/Lists/Stock Inventory; Value: 22nF; Size/Package: 0603 (1608 Metric); Voltage/Current: 50V; Supplier1: Digikey; Supplier1-PN: 1276-2000-2-ND; Component Type: CAP-0603-22nF; Category: Capacitor; Status: Active
footprint ECE-CAPC1608-0603SM
pins: 1, 2

## CAP000621
designator C?, comment 33nF  (value not drawn)
CAP CER 33nF 50V X7R SM0603; Manufactuer: Samsung; Manufacturer-PN: CL10B333KB8SFNC; UoA Stock#: CAP000621; Assembly Method: Surface Mount; Item Type: Item; Path: ece/ts/Lists/Stock Inventory; Value: 33nF; Size/Package: 0603 (1608 Metric); Voltage/Current: 50V; Supplier1: Digikey; Supplier1-PN: 1276-2042-2-ND; Component Type: CAP-0603-33nF; Category: Capacitor; Status: Active
footprint ECE-CAPC1608-0603SM
pins: 1, 2

## CAP000622
designator C?, comment 47nF  (value not drawn)
CAP CER 47nF 50V X7R SM0603; Manufactuer: Samsung; Manufacturer-PN: CL10B473KB8NNNC; UoA Stock#: CAP000622; Assembly Method: Surface Mount; Item Type: Item; Path: ece/ts/Lists/Stock Inventory; Value: 47nF; Size/Package: 0603 (1608 Metric); Voltage/Current: 50V; Supplier1: Digikey; Supplier1-PN: 1276-1063-2-ND; Component Type: CAP-0603-47nF; Category: Capacitor; Status: Active
footprint ECE-CAPC1608-0603SM
pins: 1, 2

## CAP000623
designator C?, comment 68nF  (value not drawn)
CAP CER 68nF 25V X7R SM0603; Manufactuer: Kemet; Manufacturer-PN: C0603C683K3RACTU; UoA Stock#: CAP000623; Assembly Method: Surface Mount; Item Type: Item; Path: ece/ts/Lists/Stock Inventory; Value: 68nF; Size/Package: 0603 (1608 Metric); Voltage/Current: 25V; Supplier1: Digikey; Supplier1-PN: 399-7953-2-ND; Component Type: CAP-0603-68nF; Category: Capacitor; Status: Active
footprint ECE-CAPC1608-0603SM
pins: 1, 2

## CAP000624
designator C?, comment 100nF  (value not drawn)
CAP CER 100nF 25V X7R SM0603; Manufactuer: Kemet; Manufacturer-PN: C0603C104K3RACTU; UoA Stock#: CAP000624; Assembly Method: Surface Mount; Item Type: Item; Path: ece/ts/Lists/Stock Inventory; Value: 100nF; Size/Package: 0603 (1608 Metric); Voltage/Current: 25V; Supplier1: Digikey; Supplier1-PN: 399-1281-2-ND; Component Type: CAP-0603-100nF; Category: Capacitor; Status: Active
footprint ECE-CAPC1608-0603SM
pins: 1, 2

## CAP000625
designator C?, comment 150nF  (value not drawn)
CAP CER 150nF 25V X7R SM0603; Manufactuer: TDK; Manufacturer-PN: C1608X7R1E154K080AA; UoA Stock#: CAP000625; Assembly Method: Surface Mount; Item Type: Item; Path: ece/ts/Lists/Stock Inventory; Value: 150nF; Size/Package: 0603 (1608 Metric); Voltage/Current: 25V; Supplier1: Digikey; Supplier1-PN: 445-5190-2-ND; Component Type: CAP-0603-150nF; Category: Capacitor; Status: Active
footprint ECE-CAPC1608-0603SM
pins: 1, 2

## CAP000626
designator C?, comment 220nF  (value not drawn)
CAP CER 220nF 25V X7R SM0603; Manufactuer: Samsung; Manufacturer-PN: CL10B224KA8NNNC; UoA Stock#: CAP000626; Assembly Method: Surface Mount; Item Type: Item; Path: ece/ts/Lists/Stock Inventory; Value: 220nF; Size/Package: 0603 (1608 Metric); Voltage/Current: 25V; Supplier1: Digikey; Supplier1-PN: 1276-1111-2-ND; Component Type: CAP-0603-220nF; Category: Capacitor; Status: Active
footprint ECE-CAPC1608-0603SM
pins: 1, 2

## CAP000627
designator C?, comment 330nF  (value not drawn)
CAP CER 330nF 25V X7R SM0603; Manufactuer: TDK; Manufacturer-PN: C1608X5R1E334K080AC; UoA Stock#: CAP000627; Assembly Method: Surface Mount; Item Type: Item; Path: ece/ts/Lists/Stock Inventory; Value: 330nF; Size/Package: 0603 (1608 Metric); Voltage/Current: 25V; Supplier1: Digikey; Supplier1-PN: 445-5142-6-ND; Component Type: CAP-0603-330nF; Category: Capacitor; Status: Active
footprint ECE-CAPC1608-0603SM
pins: 1, 2

## CAP000628
designator C?, comment 470nF  (value not drawn)
CAP CER 470nF 25V X7R SM0603; Manufactuer: TDK; Manufacturer-PN: C1608X5R1E474K080AC; UoA Stock#: CAP000628; Assembly Method: Surface Mount; Item Type: Item; Path: ece/ts/Lists/Stock Inventory; Value: 470nF; Size/Package: 0603 (1608 Metric); Voltage/Current: 25V; Supplier1: Digikey; Supplier1-PN: 445-5144-6-ND; Component Type: CAP-0603-470nF; Category: Capacitor; Status: Active
footprint ECE-CAPC1608-0603SM
pins: 1, 2

## CAP000629
designator C?, comment 680nF  (value not drawn)
CAP CER 680nF 25V X7R SM0603; Manufactuer: TDK; Manufacturer-PN: C1608X7R1E684K080AB; UoA Stock#: CAP000629; Assembly Method: Surface Mount; Item Type: Item; Path: ece/ts/Lists/Stock Inventory; Value: 680nF; Size/Package: 0603 (1608 Metric); Voltage/Current: 25V; Supplier1: Digikey; Supplier1-PN: 445-5954-6-ND; Component Type: CAP-0603-680nF; Category: Capacitor; Status: Active
footprint ECE-CAPC1608-0603SM
pins: 1, 2

## CAP000630
designator C?, comment 1uF  (value not drawn)
CAP CER 1uF 50V X7R SM0603; Manufactuer: Samsung; Manufacturer-PN: CL10B105KA8NNNC; UoA Stock#: CAP000630; Assembly Method: Surface Mount; Voltage/Current: 25V; Item Type: Item; Path: ece/ts/Lists/Stock Inventory; Value: 1uF; Size/Package: 0603 (1608 Metric); Supplier1: Digikey; Supplier1-PN: 1276-1184-2-ND; Component Type: CAP-0603-1uF; Category: Capacitor; Status: Active
footprint ECE-CAPC1608-0603SM
pins: 1, 2